# EAGLE library part 418217170906 (library Eagle_Wuerth_Elektronik_Switch)
WS-RA 2.54 mm right angled compact THT Dip Switch with flat actuator, 6 Pole
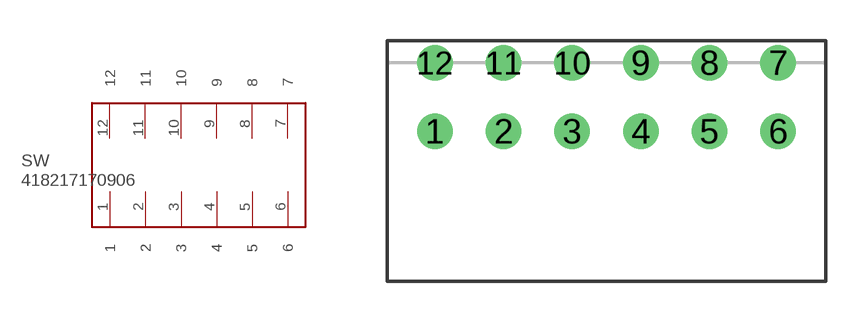
[diagram p86: symbol with the pads of 418217170906; footprint 418217170906]

Designator prefix SW

## 418217170906  [418217170906]
1  1
2  2
3  3
4  4
5  5
6  6
7  7
8  8
9  9
10  10
11  11
12  12

## Footprint 418217170906 (pad centres in mm)
WS-RA 2.54 mm right angled compact THT Dip Switch with flat actuator, 6 Pole
drill 0.8: 1 0,-1.27; 2 2.54,-1.27; 3 5.08,-1.27; 4 7.62,-1.27; 5 10.16,-1.27; 6 12.7,-1.27; 7 12.7,1.27; 8 10.16,1.27; 9 7.62,1.27; 10 5.08,1.27; 11 2.54,1.27; 12 0,1.27